# EAGLE library part PINHD-2X4 (library Gekkio-connector)
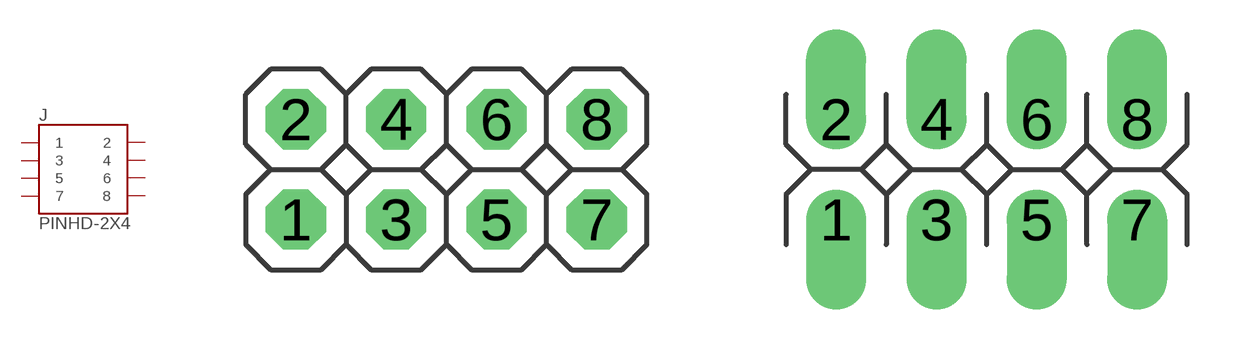
[diagram p13: symbol with the pads of 2X4; footprints 2X4, 2X4-LONGPADS]

Designator prefix J

## PINHD-2X4  [2X4]
1  1  pas
2  2  pas
3  3  pas
4  4  pas
5  5  pas
6  6  pas
7  7  pas
8  8  pas

## PINHD-2X4LONGPADS  [2X4-LONGPADS]
Pads as for 2X4

## Footprint 2X4 (pad centres in mm)
drill 1.016 octagon: 1 -3.81,-1.27; 2 -3.81,1.27; 3 -1.27,-1.27; 4 -1.27,1.27; 5 1.27,-1.27; 6 1.27,1.27; 7 3.81,-1.27; 8 3.81,1.27

## Footprint 2X4-LONGPADS (pad centres in mm)
drill 1.016 offset: 1 -3.81,-1.27; 2 -3.81,1.27; 3 -1.27,-1.27; 4 -1.27,1.27; 5 1.27,-1.27; 6 1.27,1.27; 7 3.81,-1.27; 8 3.81,1.27